# EAGLE library part SN74LS629N (library 326298_rev_a)
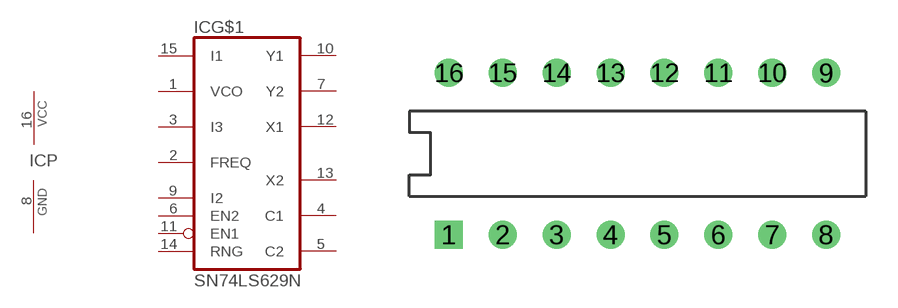
[diagram p19: symbol with the pads of DIL16; footprint DIL16]

Designator prefix IC; gates G$1=74629 P=PWRN

## SN74LS629N  [DIL16]
1  G$1:VCO  pas
2  G$1:FREQ  pas
3  G$1:I3  in
4  G$1:C1  pas
5  G$1:C2  pas
6  G$1:EN2  in
7  G$1:Y2  out
8  P:GND  pwr
9  G$1:I2  in
10  G$1:Y1  out
11  G$1:EN1  in
12  G$1:X1  pas
13  G$1:X2  pas
14  G$1:RNG  in
15  G$1:I1  in
16  P:VCC  pwr

## Footprint DIL16 (pad centres in mm)
Dual In Line Package
drill 0.813 square: 1 0,0
drill 0.813: 2 2.54,0; 3 5.08,0; 4 7.62,0; 5 10.16,0; 6 12.7,0; 7 15.24,0; 8 17.78,0; 9 17.78,7.62; 10 15.24,7.62; 11 12.7,7.62; 12 10.16,7.62; 13 7.62,7.62; 14 5.08,7.62; 15 2.54,7.62; 16 0,7.62